# Altium schematic symbol library jlcpcb_2025_04_capacitors_extended_1812.schlib: 342 symbols (part 5 of 7)
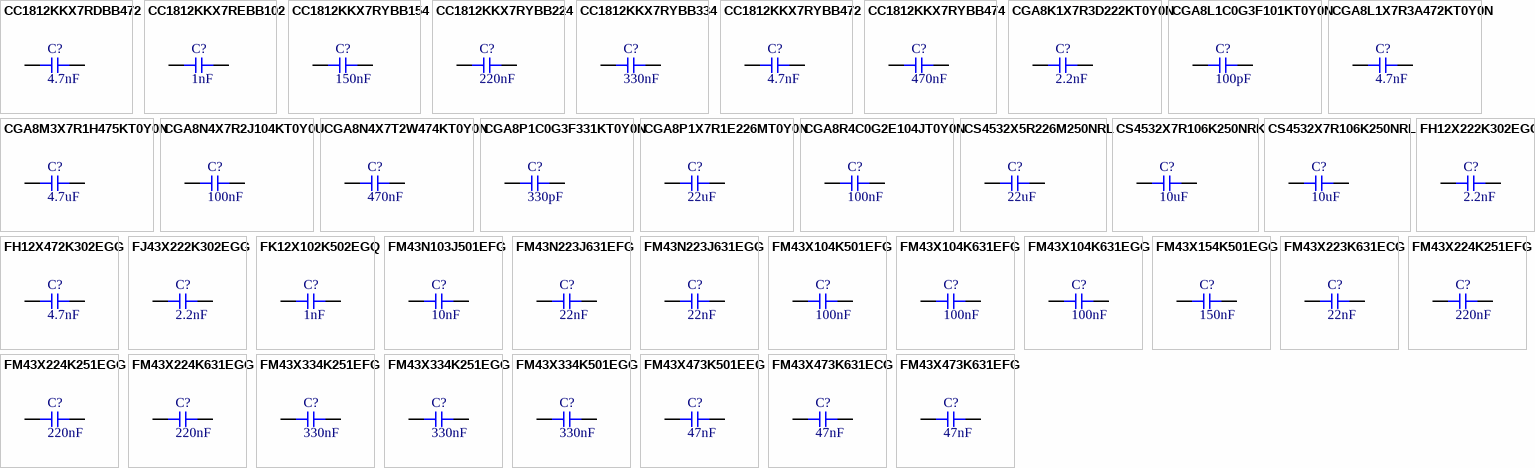
[diagram p12: symbols CC1812KKX7RDBB472 to FM43X473K631EFG]

## CC1812KKX7REBB102
designator C?  Capacitance: 1nF  (hidden comment: *)
Capacitor, Ceramic (MLCC), 1nF, ±10%, 3kV, X7R, ±10%, SMD 1812; Manufacturer: YAGEO; Manufacturer Part Number: CC1812KKX7REBB102; Package Size: 1812; JLCPCB Basic Part: No; JLCPCB Part Number: C577351; Supplier 1: LCSC; Category: Capacitors - MLCC; Supplier Part Number 1: C577351; Tolerance: ±10%; Voltage Rating: 3kV; Temperature Coefficient: X7R; RoHS: Yes; ComponentLink1Description: Datasheet; ComponentLink1URL: https://wmsc.lcsc.com/wmsc/upload/file/pdf/v2/lcsc/2204271615_YAGEO-CC1812KKX7REBB102_C577351.pdf; ComponentLink2Description: JLCPCB Part URL; ComponentLink2URL: https://jlcpcb.com/partdetail/C577351; ComponentLink3Description: LCSC Part URL; ComponentLink3URL: https://lcsc.com/product-detail/Multilayer-Ceramic-Capacitors-MLCC---SMD-SMT_YAGEO-YAGEO-CC1812KKX7REBB102_C577351.html
footprint CAP-1812 (1812 (4532M) Capacitor)
pins: 1, 2

## CC1812KKX7RYBB154
designator C?  Capacitance: 150nF  (hidden comment: *)
Capacitor, Ceramic (MLCC), 150nF, ±10%, 250V, X7R, ±10%, SMD 1812; Manufacturer: YAGEO; Manufacturer Part Number: CC1812KKX7RYBB154; Package Size: 1812; JLCPCB Basic Part: No; JLCPCB Part Number: C1855629; Supplier 1: LCSC; Category: Capacitors - MLCC; Supplier Part Number 1: C1855629; Tolerance: ±10%; Voltage Rating: 250V; Temperature Coefficient: X7R; RoHS: Yes; ComponentLink1Description: Datasheet; ComponentLink1URL: https://wmsc.lcsc.com/wmsc/upload/file/pdf/v2/lcsc/2201271300_YAGEO-CC1812KKX7RYBB154_C1855629.pdf; ComponentLink2Description: JLCPCB Part URL; ComponentLink2URL: https://jlcpcb.com/partdetail/C1855629; ComponentLink3Description: LCSC Part URL; ComponentLink3URL: https://lcsc.com/product-detail/Multilayer-Ceramic-Capacitors-MLCC---SMD-SMT_YAGEO-YAGEO-CC1812KKX7RYBB154_C1855629.html
footprint CAP-1812 (1812 (4532M) Capacitor)
pins: 1, 2

## CC1812KKX7RYBB224
designator C?  Capacitance: 220nF  (hidden comment: *)
Capacitor, Ceramic (MLCC), 220nF, ±10%, 250V, X7R, ±10%, SMD 1812; Manufacturer: YAGEO; Manufacturer Part Number: CC1812KKX7RYBB224; Package Size: 1812; JLCPCB Basic Part: No; JLCPCB Part Number: C513732; Supplier 1: LCSC; Category: Capacitors - MLCC; Supplier Part Number 1: C513732; Tolerance: ±10%; Voltage Rating: 250V; Temperature Coefficient: X7R; RoHS: Yes; ComponentLink1Description: Datasheet; ComponentLink1URL: https://wmsc.lcsc.com/wmsc/upload/file/pdf/v2/lcsc/2304140030_YAGEO-CC1812KKX7RYBB224_C513732.pdf; ComponentLink2Description: JLCPCB Part URL; ComponentLink2URL: https://jlcpcb.com/partdetail/C513732; ComponentLink3Description: LCSC Part URL; ComponentLink3URL: https://lcsc.com/product-detail/Multilayer-Ceramic-Capacitors-MLCC---SMD-SMT_YAGEO-YAGEO-CC1812KKX7RYBB224_C513732.html
footprint CAP-1812 (1812 (4532M) Capacitor)
pins: 1, 2

## CC1812KKX7RYBB334
designator C?  Capacitance: 330nF  (hidden comment: *)
Capacitor, Ceramic (MLCC), 330nF, ±10%, 250V, X7R, ±10%, SMD 1812; Manufacturer: YAGEO; Manufacturer Part Number: CC1812KKX7RYBB334; Package Size: 1812; JLCPCB Basic Part: No; JLCPCB Part Number: C513627; Supplier 1: LCSC; Category: Capacitors - MLCC; Supplier Part Number 1: C513627; Tolerance: ±10%; Voltage Rating: 250V; Temperature Coefficient: X7R; RoHS: Yes; ComponentLink1Description: Datasheet; ComponentLink1URL: https://wmsc.lcsc.com/wmsc/upload/file/pdf/v2/lcsc/2005142148_YAGEO-CC1812KKX7RYBB334_C513627.pdf; ComponentLink2Description: JLCPCB Part URL; ComponentLink2URL: https://jlcpcb.com/partdetail/C513627; ComponentLink3Description: LCSC Part URL; ComponentLink3URL: https://lcsc.com/product-detail/Multilayer-Ceramic-Capacitors-MLCC---SMD-SMT_YAGEO-YAGEO-CC1812KKX7RYBB334_C513627.html
footprint CAP-1812 (1812 (4532M) Capacitor)
pins: 1, 2

## CC1812KKX7RYBB472
designator C?  Capacitance: 4.7nF  (hidden comment: *)
Capacitor, Ceramic (MLCC), 4.7nF, ±10%, 250V, X7R, ±10%, SMD 1812; Manufacturer: YAGEO; Manufacturer Part Number: CC1812KKX7RYBB472; Package Size: 1812; JLCPCB Basic Part: No; JLCPCB Part Number: C723621; Supplier 1: LCSC; Category: Capacitors - MLCC; Supplier Part Number 1: C723621; Tolerance: ±10%; Voltage Rating: 250V; Temperature Coefficient: X7R; RoHS: Yes; ComponentLink1Description: Datasheet; ComponentLink1URL: https://wmsc.lcsc.com/wmsc/upload/file/pdf/v2/lcsc/2008171335_YAGEO-CC1812KKX7RYBB472_C723621.pdf; ComponentLink2Description: JLCPCB Part URL; ComponentLink2URL: https://jlcpcb.com/partdetail/C723621; ComponentLink3Description: LCSC Part URL; ComponentLink3URL: https://lcsc.com/product-detail/Multilayer-Ceramic-Capacitors-MLCC---SMD-SMT_YAGEO-YAGEO-CC1812KKX7RYBB472_C723621.html
footprint CAP-1812 (1812 (4532M) Capacitor)
pins: 1, 2

## CC1812KKX7RYBB474
designator C?  Capacitance: 470nF  (hidden comment: *)
Capacitor, Ceramic (MLCC), 470nF, ±10%, 250V, X7R, ±10%, SMD 1812; Manufacturer: YAGEO; Manufacturer Part Number: CC1812KKX7RYBB474; Package Size: 1812; JLCPCB Basic Part: No; JLCPCB Part Number: C326625; Supplier 1: LCSC; Category: Capacitors - MLCC; Supplier Part Number 1: C326625; Tolerance: ±10%; Voltage Rating: 250V; Temperature Coefficient: X7R; RoHS: Yes; ComponentLink1Description: Datasheet; ComponentLink1URL: https://wmsc.lcsc.com/wmsc/upload/file/pdf/v2/lcsc/1811141242_YAGEO-CC1812KKX7RYBB474_C326625.pdf; ComponentLink2Description: JLCPCB Part URL; ComponentLink2URL: https://jlcpcb.com/partdetail/C326625; ComponentLink3Description: LCSC Part URL; ComponentLink3URL: https://lcsc.com/product-detail/Multilayer-Ceramic-Capacitors-MLCC---SMD-SMT_YAGEO-YAGEO-CC1812KKX7RYBB474_C326625.html
footprint CAP-1812 (1812 (4532M) Capacitor)
pins: 1, 2

## CGA8K1X7R3D222KT0Y0N
designator C?  Capacitance: 2.2nF  (hidden comment: *)
Capacitor, Ceramic (MLCC), 2.2nF, ±10%, 2kV, X7R, ±10%, SMD 1812; Manufacturer: TDK; Manufacturer Part Number: CGA8K1X7R3D222KT0Y0N; Package Size: 1812; JLCPCB Basic Part: No; JLCPCB Part Number: C2991823; Supplier 1: LCSC; Category: Capacitors - MLCC; Supplier Part Number 1: C2991823; Tolerance: ±10%; Voltage Rating: 2kV; Temperature Coefficient: X7R; RoHS: Yes; ComponentLink1Description: Datasheet; ComponentLink1URL: https://wmsc.lcsc.com/wmsc/upload/file/pdf/v2/lcsc/2204151015_TDK-CGA8K1X7R3D222KT0Y0N_C2991823.pdf; ComponentLink2Description: JLCPCB Part URL; ComponentLink2URL: https://jlcpcb.com/partdetail/C2991823; ComponentLink3Description: LCSC Part URL; ComponentLink3URL: https://lcsc.com/product-detail/Multilayer-Ceramic-Capacitors-MLCC---SMD-SMT_TDK-TDK-CGA8K1X7R3D222KT0Y0N_C2991823.html
footprint CAP-1812 (1812 (4532M) Capacitor)
pins: 1, 2

## CGA8L1C0G3F101KT0Y0N
designator C?  Capacitance: 100pF  (hidden comment: *)
Capacitor, Ceramic (MLCC), 100pF, ±10%, 3kV, C0G, ±10%, SMD 1812; Manufacturer: TDK; Manufacturer Part Number: CGA8L1C0G3F101KT0Y0N; Package Size: 1812; JLCPCB Basic Part: No; JLCPCB Part Number: C448601; Supplier 1: LCSC; Category: Capacitors - MLCC; Supplier Part Number 1: C448601; Tolerance: ±10%; Voltage Rating: 3kV; Temperature Coefficient: C0G; RoHS: Yes; ComponentLink1Description: Datasheet; ComponentLink1URL: https://wmsc.lcsc.com/wmsc/upload/file/pdf/v2/lcsc/2304140030_TDK-CGA8L1C0G3F101KT0Y0N_C448601.pdf; ComponentLink2Description: JLCPCB Part URL; ComponentLink2URL: https://jlcpcb.com/partdetail/C448601; ComponentLink3Description: LCSC Part URL; ComponentLink3URL: https://lcsc.com/product-detail/Multilayer-Ceramic-Capacitors-MLCC---SMD-SMT_TDK-TDK-CGA8L1C0G3F101KT0Y0N_C448601.html
footprint CAP-1812 (1812 (4532M) Capacitor)
pins: 1, 2

## CGA8L1X7R3A472KT0Y0N
designator C?  Capacitance: 4.7nF  (hidden comment: *)
Capacitor, Ceramic (MLCC), 4.7nF, ±10%, 1kV, X7R, ±10%, SMD 1812; Manufacturer: TDK; Manufacturer Part Number: CGA8L1X7R3A472KT0Y0N; Package Size: 1812; JLCPCB Basic Part: No; JLCPCB Part Number: C338085; Supplier 1: LCSC; Category: Capacitors - MLCC; Supplier Part Number 1: C338085; Tolerance: ±10%; Voltage Rating: 1kV; Temperature Coefficient: X7R; RoHS: Yes; ComponentLink1Description: Datasheet; ComponentLink1URL: https://wmsc.lcsc.com/wmsc/upload/file/pdf/v2/lcsc/1912111437_TDK-CGA8L1X7R3A472KT0Y0N_C338085.pdf; ComponentLink2Description: JLCPCB Part URL; ComponentLink2URL: https://jlcpcb.com/partdetail/C338085; ComponentLink3Description: LCSC Part URL; ComponentLink3URL: https://lcsc.com/product-detail/Multilayer-Ceramic-Capacitors-MLCC---SMD-SMT_TDK-TDK-CGA8L1X7R3A472KT0Y0N_C338085.html
footprint CAP-1812 (1812 (4532M) Capacitor)
pins: 1, 2

## CGA8M3X7R1H475KT0Y0N
designator C?  Capacitance: 4.7uF  (hidden comment: *)
Capacitor, Ceramic (MLCC), 4.7uF, ±10%, 50V, X7R, ±10%, SMD 1812; Manufacturer: TDK; Manufacturer Part Number: CGA8M3X7R1H475KT0Y0N; Package Size: 1812; JLCPCB Basic Part: No; JLCPCB Part Number: C445682; Supplier 1: LCSC; Category: Capacitors - MLCC; Supplier Part Number 1: C445682; Tolerance: ±10%; Voltage Rating: 50V; Temperature Coefficient: X7R; RoHS: Yes; ComponentLink1Description: Datasheet; ComponentLink1URL: https://wmsc.lcsc.com/wmsc/upload/file/pdf/v2/lcsc/2304140030_TDK-CGA8M3X7R1H475KT0Y0N_C445682.pdf; ComponentLink2Description: JLCPCB Part URL; ComponentLink2URL: https://jlcpcb.com/partdetail/C445682; ComponentLink3Description: LCSC Part URL; ComponentLink3URL: https://lcsc.com/product-detail/Multilayer-Ceramic-Capacitors-MLCC---SMD-SMT_TDK-TDK-CGA8M3X7R1H475KT0Y0N_C445682.html
footprint CAP-1812 (1812 (4532M) Capacitor)
pins: 1, 2

## CGA8N4X7R2J104KT0Y0U
designator C?  Capacitance: 100nF  (hidden comment: *)
Capacitor, Ceramic (MLCC), 100nF, ±10%, 630V, X7R, ±10%, SMD 1812; Manufacturer: TDK; Manufacturer Part Number: CGA8N4X7R2J104KT0Y0U; Package Size: 1812; JLCPCB Basic Part: No; JLCPCB Part Number: C694524; Supplier 1: LCSC; Category: Capacitors - MLCC; Supplier Part Number 1: C694524; Tolerance: ±10%; Voltage Rating: 630V; Temperature Coefficient: X7R; RoHS: Yes; ComponentLink1Description: Datasheet; ComponentLink1URL: https://wmsc.lcsc.com/wmsc/upload/file/pdf/v2/lcsc/2304140030_TDK-CGA8N4X7R2J104KT0Y0U_C694524.pdf; ComponentLink2Description: JLCPCB Part URL; ComponentLink2URL: https://jlcpcb.com/partdetail/C694524; ComponentLink3Description: LCSC Part URL; ComponentLink3URL: https://lcsc.com/product-detail/Multilayer-Ceramic-Capacitors-MLCC---SMD-SMT_TDK-TDK-CGA8N4X7R2J104KT0Y0U_C694524.html
footprint CAP-1812 (1812 (4532M) Capacitor)
pins: 1, 2

## CGA8N4X7T2W474KT0Y0N
designator C?  Capacitance: 470nF  (hidden comment: *)
Capacitor, Ceramic (MLCC), 470nF, ±10%, 450V, X7T, ±10%, SMD 1812; Manufacturer: TDK; Manufacturer Part Number: CGA8N4X7T2W474KT0Y0N; Package Size: 1812; JLCPCB Basic Part: No; JLCPCB Part Number: C445680; Supplier 1: LCSC; Category: Capacitors - MLCC; Supplier Part Number 1: C445680; Tolerance: ±10%; Voltage Rating: 450V; Temperature Coefficient: X7T; RoHS: Yes; ComponentLink1Description: Datasheet; ComponentLink1URL: https://wmsc.lcsc.com/wmsc/upload/file/pdf/v2/lcsc/2304140030_TDK-CGA8N4X7T2W474KT0Y0N_C445680.pdf; ComponentLink2Description: JLCPCB Part URL; ComponentLink2URL: https://jlcpcb.com/partdetail/C445680; ComponentLink3Description: LCSC Part URL; ComponentLink3URL: https://lcsc.com/product-detail/Multilayer-Ceramic-Capacitors-MLCC---SMD-SMT_TDK-TDK-CGA8N4X7T2W474KT0Y0N_C445680.html
footprint CAP-1812 (1812 (4532M) Capacitor)
pins: 1, 2

## CGA8P1C0G3F331KT0Y0N
designator C?  Capacitance: 330pF  (hidden comment: *)
Capacitor, Ceramic (MLCC), 330pF, ±10%, 3kV, C0G, ±10%, SMD 1812; Manufacturer: TDK; Manufacturer Part Number: CGA8P1C0G3F331KT0Y0N; Package Size: 1812; JLCPCB Basic Part: No; JLCPCB Part Number: C448600; Supplier 1: LCSC; Category: Capacitors - MLCC; Supplier Part Number 1: C448600; Tolerance: ±10%; Voltage Rating: 3kV; Temperature Coefficient: C0G; RoHS: Yes; ComponentLink1Description: Datasheet; ComponentLink1URL: https://wmsc.lcsc.com/wmsc/upload/file/pdf/v2/lcsc/2304140030_TDK-CGA8P1C0G3F331KT0Y0N_C448600.pdf; ComponentLink2Description: JLCPCB Part URL; ComponentLink2URL: https://jlcpcb.com/partdetail/C448600; ComponentLink3Description: LCSC Part URL; ComponentLink3URL: https://lcsc.com/product-detail/Multilayer-Ceramic-Capacitors-MLCC---SMD-SMT_TDK-TDK-CGA8P1C0G3F331KT0Y0N_C448600.html
footprint CAP-1812 (1812 (4532M) Capacitor)
pins: 1, 2

## CGA8P1X7R1E226MT0Y0N
designator C?  Capacitance: 22uF  (hidden comment: *)
Capacitor, Ceramic (MLCC), 22uF, ±20%, 25V, X7R, ±20%, SMD 1812; Manufacturer: TDK; Manufacturer Part Number: CGA8P1X7R1E226MT0Y0N; Package Size: 1812; JLCPCB Basic Part: No; JLCPCB Part Number: C342594; Supplier 1: LCSC; Category: Capacitors - MLCC; Supplier Part Number 1: C342594; Tolerance: ±20%; Voltage Rating: 25V; Temperature Coefficient: X7R; RoHS: Yes; ComponentLink1Description: Datasheet; ComponentLink1URL: https://wmsc.lcsc.com/wmsc/upload/file/pdf/v2/lcsc/2304140030_TDK-CGA8P1X7R1E226MT0Y0N_C342594.pdf; ComponentLink2Description: JLCPCB Part URL; ComponentLink2URL: https://jlcpcb.com/partdetail/C342594; ComponentLink3Description: LCSC Part URL; ComponentLink3URL: https://lcsc.com/product-detail/Multilayer-Ceramic-Capacitors-MLCC---SMD-SMT_TDK-TDK-CGA8P1X7R1E226MT0Y0N_C342594.html
footprint CAP-1812 (1812 (4532M) Capacitor)
pins: 1, 2

## CGA8R4C0G2E104JT0Y0N
designator C?  Capacitance: 100nF  (hidden comment: *)
Capacitor, Ceramic (MLCC), 100nF, ±5%, 250V, C0G, ±5%, SMD 1812; Manufacturer: TDK; Manufacturer Part Number: CGA8R4C0G2E104JT0Y0N; Package Size: 1812; JLCPCB Basic Part: No; JLCPCB Part Number: C880714; Supplier 1: LCSC; Category: Capacitors - MLCC; Supplier Part Number 1: C880714; Tolerance: ±5%; Voltage Rating: 250V; Temperature Coefficient: C0G; RoHS: Yes; ComponentLink1Description: Datasheet; ComponentLink1URL: https://wmsc.lcsc.com/wmsc/upload/file/pdf/v2/lcsc/2304140030_TDK-CGA8R4C0G2E104JT0Y0N_C880714.pdf; ComponentLink2Description: JLCPCB Part URL; ComponentLink2URL: https://jlcpcb.com/partdetail/C880714; ComponentLink3Description: LCSC Part URL; ComponentLink3URL: https://lcsc.com/product-detail/Multilayer-Ceramic-Capacitors-MLCC---SMD-SMT_TDK-TDK-CGA8R4C0G2E104JT0Y0N_C880714.html
footprint CAP-1812 (1812 (4532M) Capacitor)
pins: 1, 2

## CS4532X5R226M250NRL
designator C?  Capacitance: 22uF  (hidden comment: *)
Capacitor, Ceramic (MLCC), 22uF, ±20%, 25V, X5R, ±20%, SMD 1812; Manufacturer: Samwha Capacitor; Manufacturer Part Number: CS4532X5R226M250NRL; Package Size: 1812; JLCPCB Basic Part: No; JLCPCB Part Number: C5189846; Supplier 1: LCSC; Category: Capacitors - MLCC; Supplier Part Number 1: C5189846; Tolerance: ±20%; Voltage Rating: 25V; Temperature Coefficient: X5R; RoHS: Yes; ComponentLink1Description: Datasheet; ComponentLink1URL: https://wmsc.lcsc.com/wmsc/upload/file/pdf/v2/lcsc/2210121101_Samwha-Capacitor-CS4532X5R226M250NRL_C5189846.pdf; ComponentLink2Description: JLCPCB Part URL; ComponentLink2URL: https://jlcpcb.com/partdetail/C5189846; ComponentLink3Description: LCSC Part URL; ComponentLink3URL: https://lcsc.com/product-detail/Multilayer-Ceramic-Capacitors-MLCC---SMD-SMT_Samwha-Capacitor-Samwha-Capacitor-CS4532X5R226M250NRL_C5189846.html
footprint CAP-1812 (1812 (4532M) Capacitor)
pins: 1, 2

## CS4532X7R106K250NRK
designator C?  Capacitance: 10uF  (hidden comment: *)
Capacitor, Ceramic (MLCC), 10uF, ±10%, 25V, X7R, ±10%, SMD 1812; Manufacturer: Samwha Capacitor; Manufacturer Part Number: CS4532X7R106K250NRK; Package Size: 1812; JLCPCB Basic Part: No; JLCPCB Part Number: C5189848; Supplier 1: LCSC; Category: Capacitors - MLCC; Supplier Part Number 1: C5189848; Tolerance: ±10%; Voltage Rating: 25V; Temperature Coefficient: X7R; RoHS: Yes; ComponentLink1Description: Datasheet; ComponentLink1URL: https://wmsc.lcsc.com/wmsc/upload/file/pdf/v2/lcsc/2210121101_Samwha-Capacitor-CS4532X7R106K250NRK_C5189848.pdf; ComponentLink2Description: JLCPCB Part URL; ComponentLink2URL: https://jlcpcb.com/partdetail/C5189848; ComponentLink3Description: LCSC Part URL; ComponentLink3URL: https://lcsc.com/product-detail/Multilayer-Ceramic-Capacitors-MLCC---SMD-SMT_Samwha-Capacitor-Samwha-Capacitor-CS4532X7R106K250NRK_C5189848.html
footprint CAP-1812 (1812 (4532M) Capacitor)
pins: 1, 2

## CS4532X7R106K250NRL
designator C?  Capacitance: 10uF  (hidden comment: *)
Capacitor, Ceramic (MLCC), 10uF, ±10%, 25V, X7R, ±10%, SMD 1812; Manufacturer: Samwha Capacitor; Manufacturer Part Number: CS4532X7R106K250NRL; Package Size: 1812; JLCPCB Basic Part: No; JLCPCB Part Number: C5189847; Supplier 1: LCSC; Category: Capacitors - MLCC; Supplier Part Number 1: C5189847; Tolerance: ±10%; Voltage Rating: 25V; Temperature Coefficient: X7R; RoHS: Yes; ComponentLink1Description: Datasheet; ComponentLink1URL: https://wmsc.lcsc.com/wmsc/upload/file/pdf/v2/lcsc/2210121101_Samwha-Capacitor-CS4532X7R106K250NRL_C5189847.pdf; ComponentLink2Description: JLCPCB Part URL; ComponentLink2URL: https://jlcpcb.com/partdetail/C5189847; ComponentLink3Description: LCSC Part URL; ComponentLink3URL: https://lcsc.com/product-detail/Multilayer-Ceramic-Capacitors-MLCC---SMD-SMT_Samwha-Capacitor-Samwha-Capacitor-CS4532X7R106K250NRL_C5189847.html
footprint CAP-1812 (1812 (4532M) Capacitor)
pins: 1, 2

## FH12X222K302EGG
designator C?  Capacitance: 2.2nF  (hidden comment: *)
Capacitor, Ceramic (MLCC), 2.2nF, ±10%, ±10%, SMD 1812; Manufacturer: PSA(Prosperity Dielectrics); Manufacturer Part Number: FH12X222K302EGG; Package Size: 1812; JLCPCB Basic Part: No; JLCPCB Part Number: C784078; Supplier 1: LCSC; Category: Capacitors - MLCC; Supplier Part Number 1: C784078; Tolerance: ±10%; RoHS: Yes; ComponentLink1Description: Datasheet; ComponentLink1URL: https://wmsc.lcsc.com/wmsc/upload/file/pdf/v2/lcsc/2304140030_PSA-Prosperity-Dielectrics-FH12X222K302EGG_C784078.pdf; ComponentLink2Description: JLCPCB Part URL; ComponentLink2URL: https://jlcpcb.com/partdetail/C784078; ComponentLink3Description: LCSC Part URL; ComponentLink3URL: https://lcsc.com/product-detail/Suppression-Capacitors_PSAProsperity-Dielectrics-PSAProsperity-Dielectrics-FH12X222K302EGG_C784078.html
footprint CAP-1812 (1812 (4532M) Capacitor)
pins: 1, 2

## FH12X472K302EGG
designator C?  Capacitance: 4.7nF  (hidden comment: *)
Capacitor, Ceramic (MLCC), 4.7nF, ±10%, ±10%, SMD 1812; Manufacturer: PSA(Prosperity Dielectrics); Manufacturer Part Number: FH12X472K302EGG; Package Size: 1812; JLCPCB Basic Part: No; JLCPCB Part Number: C784079; Supplier 1: LCSC; Category: Capacitors - MLCC; Supplier Part Number 1: C784079; Tolerance: ±10%; RoHS: Yes; ComponentLink1Description: Datasheet; ComponentLink1URL: https://wmsc.lcsc.com/wmsc/upload/file/pdf/v2/lcsc/2304140030_PSA-Prosperity-Dielectrics-FH12X472K302EGG_C784079.pdf; ComponentLink2Description: JLCPCB Part URL; ComponentLink2URL: https://jlcpcb.com/partdetail/C784079; ComponentLink3Description: LCSC Part URL; ComponentLink3URL: https://lcsc.com/product-detail/Suppression-Capacitors_PSAProsperity-Dielectrics-PSAProsperity-Dielectrics-FH12X472K302EGG_C784079.html
footprint CAP-1812 (1812 (4532M) Capacitor)
pins: 1, 2

## FJ43X222K302EGG
designator C?  Capacitance: 2.2nF  (hidden comment: *)
Capacitor, Ceramic (MLCC), 2.2nF, ±10%, 3kV, X7R, ±10%, SMD 1812; Manufacturer: PSA(Prosperity Dielectrics); Manufacturer Part Number: FJ43X222K302EGG; Package Size: 1812; JLCPCB Basic Part: No; JLCPCB Part Number: C2976754; Supplier 1: LCSC; Category: Capacitors - MLCC; Supplier Part Number 1: C2976754; Tolerance: ±10%; Voltage Rating: 3kV; Temperature Coefficient: X7R; RoHS: Yes; ComponentLink1Description: Datasheet; ComponentLink1URL: https://wmsc.lcsc.com/wmsc/upload/file/pdf/v2/lcsc/2202221130_PSA-Prosperity-Dielectrics-FJ43X222K302EGG_C2976754.pdf; ComponentLink2Description: JLCPCB Part URL; ComponentLink2URL: https://jlcpcb.com/partdetail/C2976754; ComponentLink3Description: LCSC Part URL; ComponentLink3URL: https://lcsc.com/product-detail/Multilayer-Ceramic-Capacitors-MLCC---SMD-SMT_PSAProsperity-Dielectrics-PSAProsperity-Dielectrics-FJ43X222K302EGG_C2976754.html
footprint CAP-1812 (1812 (4532M) Capacitor)
pins: 1, 2

## FK12X102K502EGQ
designator C?  Capacitance: 1nF  (hidden comment: *)
Capacitor, Ceramic (MLCC), 1nF, ±10%, ±10%, SMD 1812; Manufacturer: PSA(Prosperity Dielectrics); Manufacturer Part Number: FK12X102K502EGQ; Package Size: 1812; JLCPCB Basic Part: No; JLCPCB Part Number: C784082; Supplier 1: LCSC; Category: Capacitors - MLCC; Supplier Part Number 1: C784082; Tolerance: ±10%; RoHS: Yes; ComponentLink1Description: Datasheet; ComponentLink1URL: https://wmsc.lcsc.com/wmsc/upload/file/pdf/v2/lcsc/2304140030_PSA-Prosperity-Dielectrics-FK12X102K502EGQ_C784082.pdf; ComponentLink2Description: JLCPCB Part URL; ComponentLink2URL: https://jlcpcb.com/partdetail/C784082; ComponentLink3Description: LCSC Part URL; ComponentLink3URL: https://lcsc.com/product-detail/Suppression-Capacitors_PSAProsperity-Dielectrics-PSAProsperity-Dielectrics-FK12X102K502EGQ_C784082.html
footprint CAP-1812 (1812 (4532M) Capacitor)
pins: 1, 2

## FM43N103J501EFG
designator C?  Capacitance: 10nF  (hidden comment: *)
Capacitor, Ceramic (MLCC), 10nF, ±5%, 500V, C0G, ±5%, SMD 1812; Manufacturer: PSA(Prosperity Dielectrics); Manufacturer Part Number: FM43N103J501EFG; Package Size: 1812; JLCPCB Basic Part: No; JLCPCB Part Number: C5144744; Supplier 1: LCSC; Category: Capacitors - MLCC; Supplier Part Number 1: C5144744; Tolerance: ±5%; Voltage Rating: 500V; Temperature Coefficient: C0G; RoHS: Yes; ComponentLink1Description: Datasheet; ComponentLink1URL: https://wmsc.lcsc.com/wmsc/upload/file/pdf/v2/lcsc/2208240930_PSA-Prosperity-Dielectrics-FM43N103J501EFG_C5144744.pdf; ComponentLink2Description: JLCPCB Part URL; ComponentLink2URL: https://jlcpcb.com/partdetail/C5144744; ComponentLink3Description: LCSC Part URL; ComponentLink3URL: https://lcsc.com/product-detail/Multilayer-Ceramic-Capacitors-MLCC---SMD-SMT_PSAProsperity-Dielectrics-PSAProsperity-Dielectrics-FM43N103J501EFG_C5144744.html
footprint CAP-1812 (1812 (4532M) Capacitor)
pins: 1, 2

## FM43N223J631EFG
designator C?  Capacitance: 22nF  (hidden comment: *)
Capacitor, Ceramic (MLCC), 22nF, ±5%, 630V, NP0, ±5%, SMD 1812; Manufacturer: PSA(Prosperity Dielectrics); Manufacturer Part Number: FM43N223J631EFG; Package Size: 1812; JLCPCB Basic Part: No; JLCPCB Part Number: C692329; Supplier 1: LCSC; Category: Capacitors - MLCC; Supplier Part Number 1: C692329; Tolerance: ±5%; Voltage Rating: 630V; Temperature Coefficient: NP0; RoHS: Yes; ComponentLink1Description: Datasheet; ComponentLink1URL: https://wmsc.lcsc.com/wmsc/upload/file/pdf/v2/lcsc/2304140030_PSA-Prosperity-Dielectrics-FM43N223J631EFG_C692329.pdf; ComponentLink2Description: JLCPCB Part URL; ComponentLink2URL: https://jlcpcb.com/partdetail/C692329; ComponentLink3Description: LCSC Part URL; ComponentLink3URL: https://lcsc.com/product-detail/Multilayer-Ceramic-Capacitors-MLCC---SMD-SMT_PSAProsperity-Dielectrics-PSAProsperity-Dielectrics-FM43N223J631EFG_C692329.html
footprint CAP-1812 (1812 (4532M) Capacitor)
pins: 1, 2

## FM43N223J631EGG
designator C?  Capacitance: 22nF  (hidden comment: *)
Capacitor, Ceramic (MLCC), 22nF, ±5%, 630V, NP0, ±5%, SMD 1812; Manufacturer: PSA(Prosperity Dielectrics); Manufacturer Part Number: FM43N223J631EGG; Package Size: 1812; JLCPCB Basic Part: No; JLCPCB Part Number: C784094; Supplier 1: LCSC; Category: Capacitors - MLCC; Supplier Part Number 1: C784094; Tolerance: ±5%; Voltage Rating: 630V; Temperature Coefficient: NP0; RoHS: Yes; ComponentLink1Description: Datasheet; ComponentLink1URL: https://wmsc.lcsc.com/wmsc/upload/file/pdf/v2/lcsc/2304140030_PSA-Prosperity-Dielectrics-FM43N223J631EGG_C784094.pdf; ComponentLink2Description: JLCPCB Part URL; ComponentLink2URL: https://jlcpcb.com/partdetail/C784094; ComponentLink3Description: LCSC Part URL; ComponentLink3URL: https://lcsc.com/product-detail/Multilayer-Ceramic-Capacitors-MLCC---SMD-SMT_PSAProsperity-Dielectrics-PSAProsperity-Dielectrics-FM43N223J631EGG_C784094.html
footprint CAP-1812 (1812 (4532M) Capacitor)
pins: 1, 2

## FM43X104K501EFG
designator C?  Capacitance: 100nF  (hidden comment: *)
Capacitor, Ceramic (MLCC), 100nF, ±10%, 500V, X7R, ±10%, SMD 1812; Manufacturer: PSA(Prosperity Dielectrics); Manufacturer Part Number: FM43X104K501EFG; Package Size: 1812; JLCPCB Basic Part: No; JLCPCB Part Number: C2915736; Supplier 1: LCSC; Category: Capacitors - MLCC; Supplier Part Number 1: C2915736; Tolerance: ±10%; Voltage Rating: 500V; Temperature Coefficient: X7R; RoHS: Yes; ComponentLink1Description: Datasheet; ComponentLink1URL: https://wmsc.lcsc.com/wmsc/upload/file/pdf/v2/lcsc/2111161830_PSA-Prosperity-Dielectrics-FM43X104K501EFG_C2915736.pdf; ComponentLink2Description: JLCPCB Part URL; ComponentLink2URL: https://jlcpcb.com/partdetail/C2915736; ComponentLink3Description: LCSC Part URL; ComponentLink3URL: https://lcsc.com/product-detail/Multilayer-Ceramic-Capacitors-MLCC---SMD-SMT_PSAProsperity-Dielectrics-PSAProsperity-Dielectrics-FM43X104K501EFG_C2915736.html
footprint CAP-1812 (1812 (4532M) Capacitor)
pins: 1, 2

## FM43X104K631EFG
designator C?  Capacitance: 100nF  (hidden comment: *)
Capacitor, Ceramic (MLCC), 100nF, ±10%, 630V, X7R, ±10%, SMD 1812; Manufacturer: PSA(Prosperity Dielectrics); Manufacturer Part Number: FM43X104K631EFG; Package Size: 1812; JLCPCB Basic Part: No; JLCPCB Part Number: C394157; Supplier 1: LCSC; Category: Capacitors - MLCC; Supplier Part Number 1: C394157; Tolerance: ±10%; Voltage Rating: 630V; Temperature Coefficient: X7R; RoHS: Yes; ComponentLink1Description: Datasheet; ComponentLink1URL: https://wmsc.lcsc.com/wmsc/upload/file/pdf/v2/lcsc/2304140030_PSA-Prosperity-Dielectrics-FM43X104K631EFG_C394157.pdf; ComponentLink2Description: JLCPCB Part URL; ComponentLink2URL: https://jlcpcb.com/partdetail/C394157; ComponentLink3Description: LCSC Part URL; ComponentLink3URL: https://lcsc.com/product-detail/Multilayer-Ceramic-Capacitors-MLCC---SMD-SMT_PSAProsperity-Dielectrics-PSAProsperity-Dielectrics-FM43X104K631EFG_C394157.html
footprint CAP-1812 (1812 (4532M) Capacitor)
pins: 1, 2

## FM43X104K631EGG
designator C?  Capacitance: 100nF  (hidden comment: *)
Capacitor, Ceramic (MLCC), 100nF, ±10%, ±10%, SMD 1812; Manufacturer: PSA(Prosperity Dielectrics); Manufacturer Part Number: FM43X104K631EGG; Package Size: 1812; JLCPCB Basic Part: No; JLCPCB Part Number: C571506; Supplier 1: LCSC; Category: Capacitors - MLCC; Supplier Part Number 1: C571506; Tolerance: ±10%; RoHS: Yes; ComponentLink1Description: Datasheet; ComponentLink1URL: https://wmsc.lcsc.com/wmsc/upload/file/pdf/v2/lcsc/2304140030_PSA-Prosperity-Dielectrics-FM43X104K631EGG_C571506.pdf; ComponentLink2Description: JLCPCB Part URL; ComponentLink2URL: https://jlcpcb.com/partdetail/C571506; ComponentLink3Description: LCSC Part URL; ComponentLink3URL: https://lcsc.com/product-detail/Multilayer-Ceramic-Capacitors-MLCC---SMD-SMT_PSAProsperity-Dielectrics-PSAProsperity-Dielectrics-FM43X104K631EGG_C571506.html
footprint CAP-1812 (1812 (4532M) Capacitor)
pins: 1, 2

## FM43X154K501EGG
designator C?  Capacitance: 150nF  (hidden comment: *)
Capacitor, Ceramic (MLCC), 150nF, ±10%, 500V, ±10%, SMD 1812; Manufacturer: PSA(Prosperity Dielectrics); Manufacturer Part Number: FM43X154K501EGG; Package Size: 1812; JLCPCB Basic Part: No; JLCPCB Part Number: C1021624; Supplier 1: LCSC; Category: Capacitors - MLCC; Supplier Part Number 1: C1021624; Tolerance: ±10%; Voltage Rating: 500V; RoHS: Yes; ComponentLink1Description: Datasheet; ComponentLink1URL: https://wmsc.lcsc.com/wmsc/upload/file/pdf/v2/lcsc/2304140030_PSA-Prosperity-Dielectrics-FM43X154K501EGG_C1021624.pdf; ComponentLink2Description: JLCPCB Part URL; ComponentLink2URL: https://jlcpcb.com/partdetail/C1021624; ComponentLink3Description: LCSC Part URL; ComponentLink3URL: https://lcsc.com/product-detail/Multilayer-Ceramic-Capacitors-MLCC---SMD-SMT_PSAProsperity-Dielectrics-PSAProsperity-Dielectrics-FM43X154K501EGG_C1021624.html
footprint CAP-1812 (1812 (4532M) Capacitor)
pins: 1, 2

## FM43X223K631ECG
designator C?  Capacitance: 22nF  (hidden comment: *)
Capacitor, Ceramic (MLCC), 22nF, ±10%, 630V, X7R, ±10%, SMD 1812; Manufacturer: PSA(Prosperity Dielectrics); Manufacturer Part Number: FM43X223K631ECG; Package Size: 1812; JLCPCB Basic Part: No; JLCPCB Part Number: C692306; Supplier 1: LCSC; Category: Capacitors - MLCC; Supplier Part Number 1: C692306; Tolerance: ±10%; Voltage Rating: 630V; Temperature Coefficient: X7R; RoHS: Yes; ComponentLink1Description: Datasheet; ComponentLink1URL: https://wmsc.lcsc.com/wmsc/upload/file/pdf/v2/lcsc/2304140030_PSA-Prosperity-Dielectrics-FM43X223K631ECG_C692306.pdf; ComponentLink2Description: JLCPCB Part URL; ComponentLink2URL: https://jlcpcb.com/partdetail/C692306; ComponentLink3Description: LCSC Part URL; ComponentLink3URL: https://lcsc.com/product-detail/Multilayer-Ceramic-Capacitors-MLCC---SMD-SMT_PSAProsperity-Dielectrics-PSAProsperity-Dielectrics-FM43X223K631ECG_C692306.html
footprint CAP-1812 (1812 (4532M) Capacitor)
pins: 1, 2

## FM43X224K251EFG
designator C?  Capacitance: 220nF  (hidden comment: *)
Capacitor, Ceramic (MLCC), 220nF, ±10%, 250V, X7R, ±10%, SMD 1812; Manufacturer: PSA(Prosperity Dielectrics); Manufacturer Part Number: FM43X224K251EFG; Package Size: 1812; JLCPCB Basic Part: No; JLCPCB Part Number: C146179; Supplier 1: LCSC; Category: Capacitors - MLCC; Supplier Part Number 1: C146179; Tolerance: ±10%; Voltage Rating: 250V; Temperature Coefficient: X7R; RoHS: Yes; ComponentLink1Description: Datasheet; ComponentLink1URL: https://wmsc.lcsc.com/wmsc/upload/file/pdf/v2/lcsc/2304140030_PSA-Prosperity-Dielectrics-FM43X224K251EFG_C146179.pdf; ComponentLink2Description: JLCPCB Part URL; ComponentLink2URL: https://jlcpcb.com/partdetail/C146179; ComponentLink3Description: LCSC Part URL; ComponentLink3URL: https://lcsc.com/product-detail/Multilayer-Ceramic-Capacitors-MLCC---SMD-SMT_PSAProsperity-Dielectrics-PSAProsperity-Dielectrics-FM43X224K251EFG_C146179.html
footprint CAP-1812 (1812 (4532M) Capacitor)
pins: 1, 2

## FM43X224K251EGG
designator C?  Capacitance: 220nF  (hidden comment: *)
Capacitor, Ceramic (MLCC), 220nF, ±10%, 250V, X7R, ±10%, SMD 1812; Manufacturer: PSA(Prosperity Dielectrics); Manufacturer Part Number: FM43X224K251EGG; Package Size: 1812; JLCPCB Basic Part: No; JLCPCB Part Number: C784095; Supplier 1: LCSC; Category: Capacitors - MLCC; Supplier Part Number 1: C784095; Tolerance: ±10%; Voltage Rating: 250V; Temperature Coefficient: X7R; RoHS: Yes; ComponentLink1Description: Datasheet; ComponentLink1URL: https://wmsc.lcsc.com/wmsc/upload/file/pdf/v2/lcsc/2304140030_PSA-Prosperity-Dielectrics-FM43X224K251EGG_C784095.pdf; ComponentLink2Description: JLCPCB Part URL; ComponentLink2URL: https://jlcpcb.com/partdetail/C784095; ComponentLink3Description: LCSC Part URL; ComponentLink3URL: https://lcsc.com/product-detail/Multilayer-Ceramic-Capacitors-MLCC---SMD-SMT_PSAProsperity-Dielectrics-PSAProsperity-Dielectrics-FM43X224K251EGG_C784095.html
footprint CAP-1812 (1812 (4532M) Capacitor)
pins: 1, 2

## FM43X224K631EGG
designator C?  Capacitance: 220nF  (hidden comment: *)
Capacitor, Ceramic (MLCC), 220nF, ±10%, 630V, X7R, ±10%, SMD 1812; Manufacturer: PSA(Prosperity Dielectrics); Manufacturer Part Number: FM43X224K631EGG; Package Size: 1812; JLCPCB Basic Part: No; JLCPCB Part Number: C382216; Supplier 1: LCSC; Category: Capacitors - MLCC; Supplier Part Number 1: C382216; Tolerance: ±10%; Voltage Rating: 630V; Temperature Coefficient: X7R; RoHS: Yes; ComponentLink1Description: Datasheet; ComponentLink1URL: https://wmsc.lcsc.com/wmsc/upload/file/pdf/v2/lcsc/2304140030_PSA-Prosperity-Dielectrics-FM43X224K631EGG_C382216.pdf; ComponentLink2Description: JLCPCB Part URL; ComponentLink2URL: https://jlcpcb.com/partdetail/C382216; ComponentLink3Description: LCSC Part URL; ComponentLink3URL: https://lcsc.com/product-detail/Multilayer-Ceramic-Capacitors-MLCC---SMD-SMT_PSAProsperity-Dielectrics-PSAProsperity-Dielectrics-FM43X224K631EGG_C382216.html
footprint CAP-1812 (1812 (4532M) Capacitor)
pins: 1, 2

## FM43X334K251EFG
designator C?  Capacitance: 330nF  (hidden comment: *)
Capacitor, Ceramic (MLCC), 330nF, ±10%, 250V, X7R, ±10%, SMD 1812; Manufacturer: PSA(Prosperity Dielectrics); Manufacturer Part Number: FM43X334K251EFG; Package Size: 1812; JLCPCB Basic Part: No; JLCPCB Part Number: C146180; Supplier 1: LCSC; Category: Capacitors - MLCC; Supplier Part Number 1: C146180; Tolerance: ±10%; Voltage Rating: 250V; Temperature Coefficient: X7R; RoHS: Yes; ComponentLink1Description: Datasheet; ComponentLink1URL: https://wmsc.lcsc.com/wmsc/upload/file/pdf/v2/lcsc/2304140030_PSA-Prosperity-Dielectrics-FM43X334K251EFG_C146180.pdf; ComponentLink2Description: JLCPCB Part URL; ComponentLink2URL: https://jlcpcb.com/partdetail/C146180; ComponentLink3Description: LCSC Part URL; ComponentLink3URL: https://lcsc.com/product-detail/Multilayer-Ceramic-Capacitors-MLCC---SMD-SMT_PSAProsperity-Dielectrics-PSAProsperity-Dielectrics-FM43X334K251EFG_C146180.html
footprint CAP-1812 (1812 (4532M) Capacitor)
pins: 1, 2

## FM43X334K251EGG
designator C?  Capacitance: 330nF  (hidden comment: *)
Capacitor, Ceramic (MLCC), 330nF, ±10%, 250V, X7R, ±10%, SMD 1812; Manufacturer: PSA(Prosperity Dielectrics); Manufacturer Part Number: FM43X334K251EGG; Package Size: 1812; JLCPCB Basic Part: No; JLCPCB Part Number: C146181; Supplier 1: LCSC; Category: Capacitors - MLCC; Supplier Part Number 1: C146181; Tolerance: ±10%; Voltage Rating: 250V; Temperature Coefficient: X7R; RoHS: Yes; ComponentLink1Description: Datasheet; ComponentLink1URL: https://wmsc.lcsc.com/wmsc/upload/file/pdf/v2/lcsc/2304140030_PSA-Prosperity-Dielectrics-FM43X334K251EGG_C146181.pdf; ComponentLink2Description: JLCPCB Part URL; ComponentLink2URL: https://jlcpcb.com/partdetail/C146181; ComponentLink3Description: LCSC Part URL; ComponentLink3URL: https://lcsc.com/product-detail/Multilayer-Ceramic-Capacitors-MLCC---SMD-SMT_PSAProsperity-Dielectrics-PSAProsperity-Dielectrics-FM43X334K251EGG_C146181.html
footprint CAP-1812 (1812 (4532M) Capacitor)
pins: 1, 2

## FM43X334K501EGG
designator C?  Capacitance: 330nF  (hidden comment: *)
Capacitor, Ceramic (MLCC), 330nF, ±10%, 500V, X7R, ±10%, SMD 1812; Manufacturer: PSA(Prosperity Dielectrics); Manufacturer Part Number: FM43X334K501EGG; Package Size: 1812; JLCPCB Basic Part: No; JLCPCB Part Number: C692316; Supplier 1: LCSC; Category: Capacitors - MLCC; Supplier Part Number 1: C692316; Tolerance: ±10%; Voltage Rating: 500V; Temperature Coefficient: X7R; RoHS: Yes; ComponentLink1Description: Datasheet; ComponentLink1URL: https://wmsc.lcsc.com/wmsc/upload/file/pdf/v2/lcsc/2304140030_PSA-Prosperity-Dielectrics-FM43X334K501EGG_C692316.pdf; ComponentLink2Description: JLCPCB Part URL; ComponentLink2URL: https://jlcpcb.com/partdetail/C692316; ComponentLink3Description: LCSC Part URL; ComponentLink3URL: https://lcsc.com/product-detail/Multilayer-Ceramic-Capacitors-MLCC---SMD-SMT_PSAProsperity-Dielectrics-PSAProsperity-Dielectrics-FM43X334K501EGG_C692316.html
footprint CAP-1812 (1812 (4532M) Capacitor)
pins: 1, 2

## FM43X473K501EEG
designator C?  Capacitance: 47nF  (hidden comment: *)
Capacitor, Ceramic (MLCC), 47nF, ±10%, 500V, X7R, ±10%, SMD 1812; Manufacturer: PSA(Prosperity Dielectrics); Manufacturer Part Number: FM43X473K501EEG; Package Size: 1812; JLCPCB Basic Part: No; JLCPCB Part Number: C5366112; Supplier 1: LCSC; Category: Capacitors - MLCC; Supplier Part Number 1: C5366112; Tolerance: ±10%; Voltage Rating: 500V; Temperature Coefficient: X7R; RoHS: Yes; ComponentLink1Description: Datasheet; ComponentLink1URL: https://wmsc.lcsc.com/wmsc/upload/file/pdf/v2/lcsc/2302241830_PSA-Prosperity-Dielectrics-FM43X473K501EEG_C5366112.pdf; ComponentLink2Description: JLCPCB Part URL; ComponentLink2URL: https://jlcpcb.com/partdetail/C5366112; ComponentLink3Description: LCSC Part URL; ComponentLink3URL: https://lcsc.com/product-detail/Multilayer-Ceramic-Capacitors-MLCC---SMD-SMT_PSAProsperity-Dielectrics-PSAProsperity-Dielectrics-FM43X473K501EEG_C5366112.html
footprint CAP-1812 (1812 (4532M) Capacitor)
pins: 1, 2

## FM43X473K631ECG
designator C?  Capacitance: 47nF  (hidden comment: *)
Capacitor, Ceramic (MLCC), 47nF, 630V, X7R, SMD 1812; Manufacturer: PSA(Prosperity Dielectrics); Manufacturer Part Number: FM43X473K631ECG; Package Size: 1812; JLCPCB Basic Part: No; JLCPCB Part Number: C2976756; Supplier 1: LCSC; Category: Capacitors - MLCC; Supplier Part Number 1: C2976756; Voltage Rating: 630V; Temperature Coefficient: X7R; RoHS: Yes; ComponentLink1Description: Datasheet; ComponentLink1URL: https://wmsc.lcsc.com/wmsc/upload/file/pdf/v2/lcsc/2202211730_PSA-Prosperity-Dielectrics-FM43X473K631ECG_C2976756.pdf; ComponentLink2Description: JLCPCB Part URL; ComponentLink2URL: https://jlcpcb.com/partdetail/C2976756; ComponentLink3Description: LCSC Part URL; ComponentLink3URL: https://lcsc.com/product-detail/Multilayer-Ceramic-Capacitors-MLCC---SMD-SMT_PSAProsperity-Dielectrics-PSAProsperity-Dielectrics-FM43X473K631ECG_C2976756.html
footprint CAP-1812 (1812 (4532M) Capacitor)
pins: 1, 2

## FM43X473K631EFG
designator C?  Capacitance: 47nF  (hidden comment: *)
Capacitor, Ceramic (MLCC), 47nF, 630V, X7R, SMD 1812; Manufacturer: PSA(Prosperity Dielectrics); Manufacturer Part Number: FM43X473K631EFG; Package Size: 1812; JLCPCB Basic Part: No; JLCPCB Part Number: C2981485; Supplier 1: LCSC; Category: Capacitors - MLCC; Supplier Part Number 1: C2981485; Voltage Rating: 630V; Temperature Coefficient: X7R; RoHS: Yes; ComponentLink1Description: Datasheet; ComponentLink1URL: https://wmsc.lcsc.com/wmsc/upload/file/pdf/v2/lcsc/2203101903_PSA-Prosperity-Dielectrics-FM43X473K631EFG_C2981485.pdf; ComponentLink2Description: JLCPCB Part URL; ComponentLink2URL: https://jlcpcb.com/partdetail/C2981485; ComponentLink3Description: LCSC Part URL; ComponentLink3URL: https://lcsc.com/product-detail/Multilayer-Ceramic-Capacitors-MLCC---SMD-SMT_PSAProsperity-Dielectrics-PSAProsperity-Dielectrics-FM43X473K631EFG_C2981485.html
footprint CAP-1812 (1812 (4532M) Capacitor)
pins: 1, 2

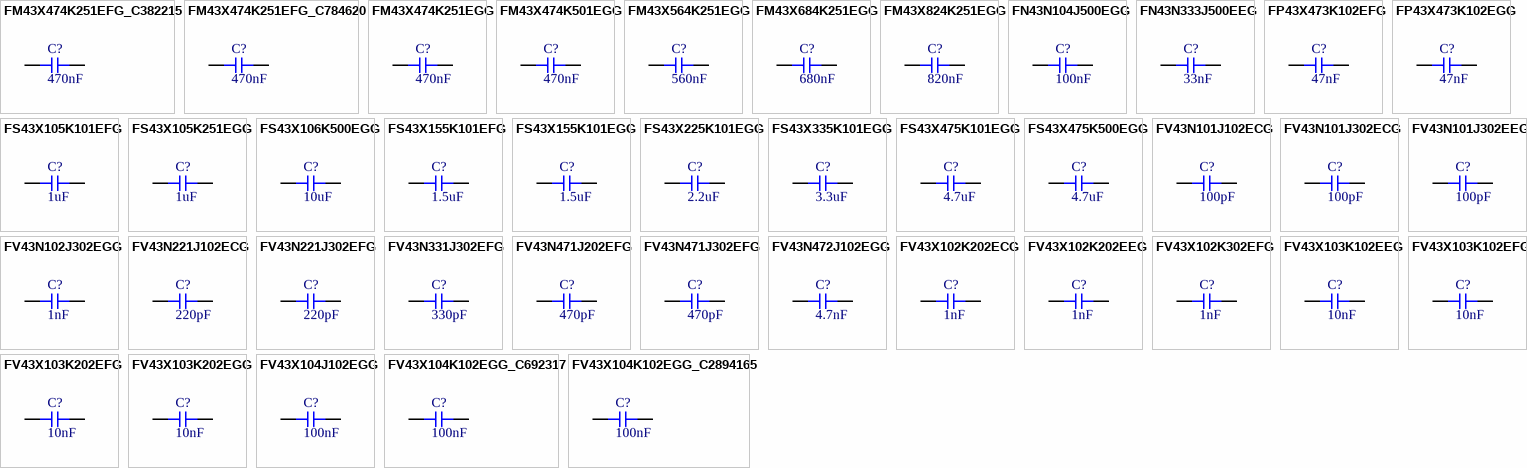
[diagram p6: symbols FM43X474K251EFG_C382215 to FV43X104K102EGG_C2894165]

## FM43X474K251EFG_C382215
designator C?  Capacitance: 470nF  (hidden comment: *)
Capacitor, Ceramic (MLCC), 470nF, ±10%, 250V, X7R, ±10%, SMD 1812; Manufacturer: PSA(Prosperity Dielectrics); Manufacturer Part Number: FM43X474K251EFG; Package Size: 1812; JLCPCB Basic Part: No; JLCPCB Part Number: C382215; Supplier 1: LCSC; Category: Capacitors - MLCC; Supplier Part Number 1: C382215; Tolerance: ±10%; Voltage Rating: 250V; Temperature Coefficient: X7R; RoHS: Yes; ComponentLink1Description: Datasheet; ComponentLink1URL: https://wmsc.lcsc.com/wmsc/upload/file/pdf/v2/lcsc/2304140030_PSA-Prosperity-Dielectrics-FM43X474K251EFG_C382215.pdf; ComponentLink2Description: JLCPCB Part URL; ComponentLink2URL: https://jlcpcb.com/partdetail/C382215; ComponentLink3Description: LCSC Part URL; ComponentLink3URL: https://lcsc.com/product-detail/Multilayer-Ceramic-Capacitors-MLCC---SMD-SMT_PSAProsperity-Dielectrics-PSAProsperity-Dielectrics-FM43X474K251EFG_C382215.html
footprint CAP-1812 (1812 (4532M) Capacitor)
pins: 1, 2

## FM43X474K251EFG_C784620
designator C?  Capacitance: 470nF  (hidden comment: *)
Capacitor, Ceramic (MLCC), 470nF, ±10%, 250V, X7R, ±10%, SMD 1812; Manufacturer: PSA(Prosperity Dielectrics); Manufacturer Part Number: FM43X474K251EFG; Package Size: 1812; JLCPCB Basic Part: No; JLCPCB Part Number: C784620; Supplier 1: LCSC; Category: Capacitors - MLCC; Supplier Part Number 1: C784620; Tolerance: ±10%; Voltage Rating: 250V; Temperature Coefficient: X7R; RoHS: Yes; ComponentLink1Description: Datasheet; ComponentLink1URL: https://wmsc.lcsc.com/wmsc/upload/file/pdf/v2/lcsc/2009251935_PSA-Prosperity-Dielectrics-FM43X474K251EFG_C784620.pdf; ComponentLink2Description: JLCPCB Part URL; ComponentLink2URL: https://jlcpcb.com/partdetail/C784620; ComponentLink3Description: LCSC Part URL; ComponentLink3URL: https://lcsc.com/product-detail/Multilayer-Ceramic-Capacitors-MLCC---SMD-SMT_PSAProsperity-Dielectrics-PSAProsperity-Dielectrics-FM43X474K251EFG_C784620.html
footprint CAP-1812 (1812 (4532M) Capacitor)
pins: 1, 2

## FM43X474K251EGG
designator C?  Capacitance: 470nF  (hidden comment: *)
Capacitor, Ceramic (MLCC), 470nF, ±10%, 250V, X7R, ±10%, SMD 1812; Manufacturer: PSA(Prosperity Dielectrics); Manufacturer Part Number: FM43X474K251EGG; Package Size: 1812; JLCPCB Basic Part: No; JLCPCB Part Number: C146183; Supplier 1: LCSC; Category: Capacitors - MLCC; Supplier Part Number 1: C146183; Tolerance: ±10%; Voltage Rating: 250V; Temperature Coefficient: X7R; RoHS: Yes; ComponentLink1Description: Datasheet; ComponentLink1URL: https://wmsc.lcsc.com/wmsc/upload/file/pdf/v2/lcsc/2304140030_PSA-Prosperity-Dielectrics-FM43X474K251EGG_C146183.pdf; ComponentLink2Description: JLCPCB Part URL; ComponentLink2URL: https://jlcpcb.com/partdetail/C146183; ComponentLink3Description: LCSC Part URL; ComponentLink3URL: https://lcsc.com/product-detail/Multilayer-Ceramic-Capacitors-MLCC---SMD-SMT_PSAProsperity-Dielectrics-PSAProsperity-Dielectrics-FM43X474K251EGG_C146183.html
footprint CAP-1812 (1812 (4532M) Capacitor)
pins: 1, 2

## FM43X474K501EGG
designator C?  Capacitance: 470nF  (hidden comment: *)
Capacitor, Ceramic (MLCC), 470nF, ±10%, 500V, X7R, ±10%, SMD 1812; Manufacturer: PSA(Prosperity Dielectrics); Manufacturer Part Number: FM43X474K501EGG; Package Size: 1812; JLCPCB Basic Part: No; JLCPCB Part Number: C692318; Supplier 1: LCSC; Category: Capacitors - MLCC; Supplier Part Number 1: C692318; Tolerance: ±10%; Voltage Rating: 500V; Temperature Coefficient: X7R; RoHS: Yes; ComponentLink1Description: Datasheet; ComponentLink1URL: https://wmsc.lcsc.com/wmsc/upload/file/pdf/v2/lcsc/2304140030_PSA-Prosperity-Dielectrics-FM43X474K501EGG_C692318.pdf; ComponentLink2Description: JLCPCB Part URL; ComponentLink2URL: https://jlcpcb.com/partdetail/C692318; ComponentLink3Description: LCSC Part URL; ComponentLink3URL: https://lcsc.com/product-detail/Multilayer-Ceramic-Capacitors-MLCC---SMD-SMT_PSAProsperity-Dielectrics-PSAProsperity-Dielectrics-FM43X474K501EGG_C692318.html
footprint CAP-1812 (1812 (4532M) Capacitor)
pins: 1, 2

## FM43X564K251EGG
designator C?  Capacitance: 560nF  (hidden comment: *)
Capacitor, Ceramic (MLCC), 560nF, ±10%, 250V, ±10%, SMD 1812; Manufacturer: PSA(Prosperity Dielectrics); Manufacturer Part Number: FM43X564K251EGG; Package Size: 1812; JLCPCB Basic Part: No; JLCPCB Part Number: C146184; Supplier 1: LCSC; Category: Capacitors - MLCC; Supplier Part Number 1: C146184; Tolerance: ±10%; Voltage Rating: 250V; RoHS: Yes; ComponentLink1Description: Datasheet; ComponentLink1URL: https://wmsc.lcsc.com/wmsc/upload/file/pdf/v2/lcsc/2304140030_PSA-Prosperity-Dielectrics-FM43X564K251EGG_C146184.pdf; ComponentLink2Description: JLCPCB Part URL; ComponentLink2URL: https://jlcpcb.com/partdetail/C146184; ComponentLink3Description: LCSC Part URL; ComponentLink3URL: https://lcsc.com/product-detail/Multilayer-Ceramic-Capacitors-MLCC---SMD-SMT_PSAProsperity-Dielectrics-PSAProsperity-Dielectrics-FM43X564K251EGG_C146184.html
footprint CAP-1812 (1812 (4532M) Capacitor)
pins: 1, 2

## FM43X684K251EGG
designator C?  Capacitance: 680nF  (hidden comment: *)
Capacitor, Ceramic (MLCC), 680nF, ±10%, 250V, X7R, ±10%, SMD 1812; Manufacturer: PSA(Prosperity Dielectrics); Manufacturer Part Number: FM43X684K251EGG; Package Size: 1812; JLCPCB Basic Part: No; JLCPCB Part Number: C146185; Supplier 1: LCSC; Category: Capacitors - MLCC; Supplier Part Number 1: C146185; Tolerance: ±10%; Voltage Rating: 250V; Temperature Coefficient: X7R; RoHS: Yes; ComponentLink1Description: Datasheet; ComponentLink1URL: https://wmsc.lcsc.com/wmsc/upload/file/pdf/v2/lcsc/2304140030_PSA-Prosperity-Dielectrics-FM43X684K251EGG_C146185.pdf; ComponentLink2Description: JLCPCB Part URL; ComponentLink2URL: https://jlcpcb.com/partdetail/C146185; ComponentLink3Description: LCSC Part URL; ComponentLink3URL: https://lcsc.com/product-detail/Multilayer-Ceramic-Capacitors-MLCC---SMD-SMT_PSAProsperity-Dielectrics-PSAProsperity-Dielectrics-FM43X684K251EGG_C146185.html
footprint CAP-1812 (1812 (4532M) Capacitor)
pins: 1, 2

## FM43X824K251EGG
designator C?  Capacitance: 820nF  (hidden comment: *)
Capacitor, Ceramic (MLCC), 820nF, ±10%, 250V, X7R, ±10%, SMD 1812; Manufacturer: PSA(Prosperity Dielectrics); Manufacturer Part Number: FM43X824K251EGG; Package Size: 1812; JLCPCB Basic Part: No; JLCPCB Part Number: C464973; Supplier 1: LCSC; Category: Capacitors - MLCC; Supplier Part Number 1: C464973; Tolerance: ±10%; Voltage Rating: 250V; Temperature Coefficient: X7R; RoHS: Yes; ComponentLink1Description: Datasheet; ComponentLink1URL: https://wmsc.lcsc.com/wmsc/upload/file/pdf/v2/lcsc/2304140030_PSA-Prosperity-Dielectrics-FM43X824K251EGG_C464973.pdf; ComponentLink2Description: JLCPCB Part URL; ComponentLink2URL: https://jlcpcb.com/partdetail/C464973; ComponentLink3Description: LCSC Part URL; ComponentLink3URL: https://lcsc.com/product-detail/Multilayer-Ceramic-Capacitors-MLCC---SMD-SMT_PSAProsperity-Dielectrics-PSAProsperity-Dielectrics-FM43X824K251EGG_C464973.html
footprint CAP-1812 (1812 (4532M) Capacitor)
pins: 1, 2

## FN43N104J500EGG
designator C?  Capacitance: 100nF  (hidden comment: *)
Capacitor, Ceramic (MLCC), 100nF, ±5%, 50V, C0G, ±5%, SMD 1812; Manufacturer: PSA(Prosperity Dielectrics); Manufacturer Part Number: FN43N104J500EGG; Package Size: 1812; JLCPCB Basic Part: No; JLCPCB Part Number: C363570; Supplier 1: LCSC; Category: Capacitors - MLCC; Supplier Part Number 1: C363570; Tolerance: ±5%; Voltage Rating: 50V; Temperature Coefficient: C0G; RoHS: Yes; ComponentLink1Description: Datasheet; ComponentLink1URL: https://wmsc.lcsc.com/wmsc/upload/file/pdf/v2/lcsc/2304140030_PSA-Prosperity-Dielectrics-FN43N104J500EGG_C363570.pdf; ComponentLink2Description: JLCPCB Part URL; ComponentLink2URL: https://jlcpcb.com/partdetail/C363570; ComponentLink3Description: LCSC Part URL; ComponentLink3URL: https://lcsc.com/product-detail/Multilayer-Ceramic-Capacitors-MLCC---SMD-SMT_PSAProsperity-Dielectrics-PSAProsperity-Dielectrics-FN43N104J500EGG_C363570.html
footprint CAP-1812 (1812 (4532M) Capacitor)
pins: 1, 2

## FN43N333J500EEG
designator C?  Capacitance: 33nF  (hidden comment: *)
Capacitor, Ceramic (MLCC), 33nF, 50V, C0G, SMD 1812; Manufacturer: PSA(Prosperity Dielectrics); Manufacturer Part Number: FN43N333J500EEG; Package Size: 1812; JLCPCB Basic Part: No; JLCPCB Part Number: C2981478; Supplier 1: LCSC; Category: Capacitors - MLCC; Supplier Part Number 1: C2981478; Voltage Rating: 50V; Temperature Coefficient: C0G; RoHS: Yes; ComponentLink1Description: Datasheet; ComponentLink1URL: https://wmsc.lcsc.com/wmsc/upload/file/pdf/v2/lcsc/2203101903_PSA-Prosperity-Dielectrics-FN43N333J500EEG_C2981478.pdf; ComponentLink2Description: JLCPCB Part URL; ComponentLink2URL: https://jlcpcb.com/partdetail/C2981478; ComponentLink3Description: LCSC Part URL; ComponentLink3URL: https://lcsc.com/product-detail/Multilayer-Ceramic-Capacitors-MLCC---SMD-SMT_PSAProsperity-Dielectrics-PSAProsperity-Dielectrics-FN43N333J500EEG_C2981478.html
footprint CAP-1812 (1812 (4532M) Capacitor)
pins: 1, 2

## FP43X473K102EFG
designator C?  Capacitance: 47nF  (hidden comment: *)
Capacitor, Ceramic (MLCC), 47nF, 1kV, X7R, SMD 1812; Manufacturer: PSA(Prosperity Dielectrics); Manufacturer Part Number: FP43X473K102EFG; Package Size: 1812; JLCPCB Basic Part: No; JLCPCB Part Number: C2929794; Supplier 1: LCSC; Category: Capacitors - MLCC; Supplier Part Number 1: C2929794; Voltage Rating: 1kV; Temperature Coefficient: X7R; RoHS: Yes; ComponentLink1Description: Datasheet; ComponentLink1URL: https://wmsc.lcsc.com/wmsc/upload/file/pdf/v2/lcsc/2208240930_PSA-Prosperity-Dielectrics-FP43X473K102EFG_C2929794.pdf; ComponentLink2Description: JLCPCB Part URL; ComponentLink2URL: https://jlcpcb.com/partdetail/C2929794; ComponentLink3Description: LCSC Part URL; ComponentLink3URL: https://lcsc.com/product-detail/Multilayer-Ceramic-Capacitors-MLCC---SMD-SMT_PSAProsperity-Dielectrics-PSAProsperity-Dielectrics-FP43X473K102EFG_C2929794.html
footprint CAP-1812 (1812 (4532M) Capacitor)
pins: 1, 2

## FP43X473K102EGG
designator C?  Capacitance: 47nF  (hidden comment: *)
Capacitor, Ceramic (MLCC), 47nF, ±10%, 1kV, ±10%, SMD 1812; Manufacturer: PSA(Prosperity Dielectrics); Manufacturer Part Number: FP43X473K102EGG; Package Size: 1812; JLCPCB Basic Part: No; JLCPCB Part Number: C1021617; Supplier 1: LCSC; Category: Capacitors - MLCC; Supplier Part Number 1: C1021617; Tolerance: ±10%; Voltage Rating: 1kV; RoHS: Yes; ComponentLink1Description: Datasheet; ComponentLink1URL: https://wmsc.lcsc.com/wmsc/upload/file/pdf/v2/lcsc/2304140030_PSA-Prosperity-Dielectrics-FP43X473K102EGG_C1021617.pdf; ComponentLink2Description: JLCPCB Part URL; ComponentLink2URL: https://jlcpcb.com/partdetail/C1021617; ComponentLink3Description: LCSC Part URL; ComponentLink3URL: https://lcsc.com/product-detail/Multilayer-Ceramic-Capacitors-MLCC---SMD-SMT_PSAProsperity-Dielectrics-PSAProsperity-Dielectrics-FP43X473K102EGG_C1021617.html
footprint CAP-1812 (1812 (4532M) Capacitor)
pins: 1, 2

## FS43X105K101EFG
designator C?  Capacitance: 1uF  (hidden comment: *)
Capacitor, Ceramic (MLCC), 1uF, ±10%, 100V, X7R, ±10%, SMD 1812; Manufacturer: PSA(Prosperity Dielectrics); Manufacturer Part Number: FS43X105K101EFG; Package Size: 1812; JLCPCB Basic Part: No; JLCPCB Part Number: C570238; Supplier 1: LCSC; Category: Capacitors - MLCC; Supplier Part Number 1: C570238; Tolerance: ±10%; Voltage Rating: 100V; Temperature Coefficient: X7R; RoHS: Yes; ComponentLink1Description: Datasheet; ComponentLink1URL: https://wmsc.lcsc.com/wmsc/upload/file/pdf/v2/lcsc/2005300208_PSA-Prosperity-Dielectrics-FS43X105K101EFG_C570238.pdf; ComponentLink2Description: JLCPCB Part URL; ComponentLink2URL: https://jlcpcb.com/partdetail/C570238; ComponentLink3Description: LCSC Part URL; ComponentLink3URL: https://lcsc.com/product-detail/Multilayer-Ceramic-Capacitors-MLCC---SMD-SMT_PSAProsperity-Dielectrics-PSAProsperity-Dielectrics-FS43X105K101EFG_C570238.html
footprint CAP-1812 (1812 (4532M) Capacitor)
pins: 1, 2